# EAGLE library part ATWILC1000-MR110PA (library wilc1000)
IEEE 802.11 b/g/n Link Controller SoC
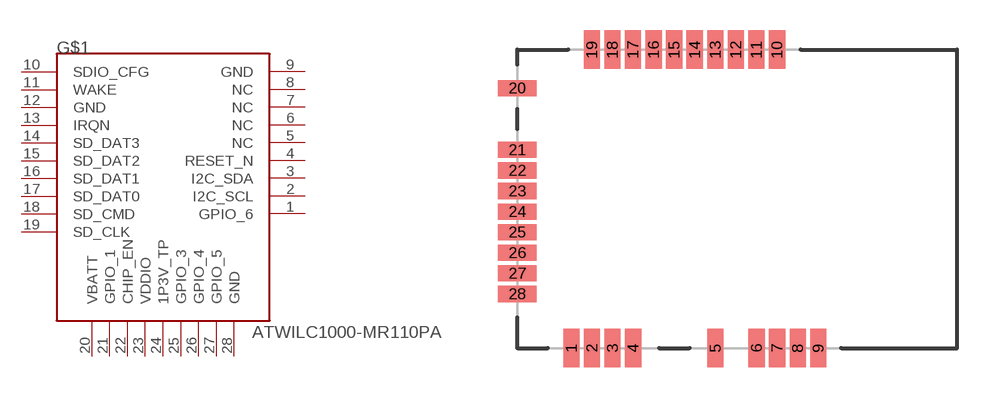
[diagram p0: symbol with the pads of ATWILC1000-MR110PA; footprint ATWILC1000-MR110PA]

Designator prefix -

## ATWILC1000-MR110PA  [ATWILC1000-MR110PA]
1  GPIO_6
2  I2C_SCL
3  I2C_SDA
4  RESET_N  in
5  NC  nc
6  NC  nc
7  NC  nc
8  NC  nc
9  GND  pwr
10  SDIO_CFG  in
11  WAKE  in
12  GND  pwr
13  IRQN  out
14  SD_DAT3
15  SD_DAT2
16  SD_DAT1
17  SD_DAT0
18  SD_CMD
19  SD_CLK  in
20  VBATT  pwr
21  GPIO_1
22  CHIP_EN  in
23  VDDIO  pwr
24  1P3V_TP  pwr
25  GPIO_3
26  GPIO_4
27  GPIO_5
28  GND  pwr

## Footprint ATWILC1000-MR110PA (pad centres in mm)
smd 0.8 x 1.9: 1 2.67,0; 2 3.686,0; 3 4.702,0; 4 5.718,0; 5 9.782,0; 6 11.814,0; 7 12.83,0; 8 13.846,0; 9 14.862,0; 10 12.824,14.73; 11 11.808,14.73; 12 10.792,14.73; 13 9.776,14.73; 14 8.76,14.73; 15 7.744,14.73; 16 6.728,14.73; 17 5.712,14.73; 18 4.696,14.73; 19 3.68,14.73
smd 1.9 x 0.8: 20 0,12.83; 21 0,9.782; 22 0,8.766; 23 0,7.75; 24 0,6.734; 25 0,5.718; 26 0,4.702; 27 0,3.686; 28 0,2.67